# Altium schematic symbol library Resistor.SchLib: 5 symbols
Pins are listed as number, name and electrical type; pins without a type are passive.

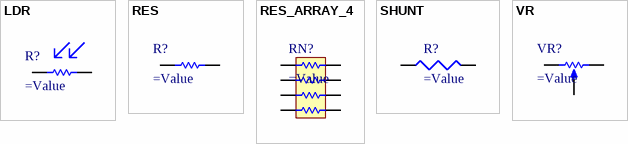
[diagram p0: symbols LDR to VR]

## LDR
designator R?
=Description
pins: 1, 2

## RES
designator R?
=Description
pins: 1, 2

## RES_ARRAY_4
designator RN?
=Description
pins: 1, 2, 3, 4, 5, 6, 7, 8

## SHUNT
designator R?
=Description
pins: 1, 2

## VR
designator VR?
=Description
pins: 1 TOP, 2 TAP, 3 BOT